# Altium footprint library 2705462719CA-C03.PcbLib: 1 footprints
Each footprint in its own frame and in the unit in brackets; x right, y up, seen from the top. Pads: shape width x height; smd on the part's side, far side on the other; paste and mask are expansions set on the pad; w line width, h text height; cw(c..) or ccw(c..) is an arc to the next point about the centre after c.
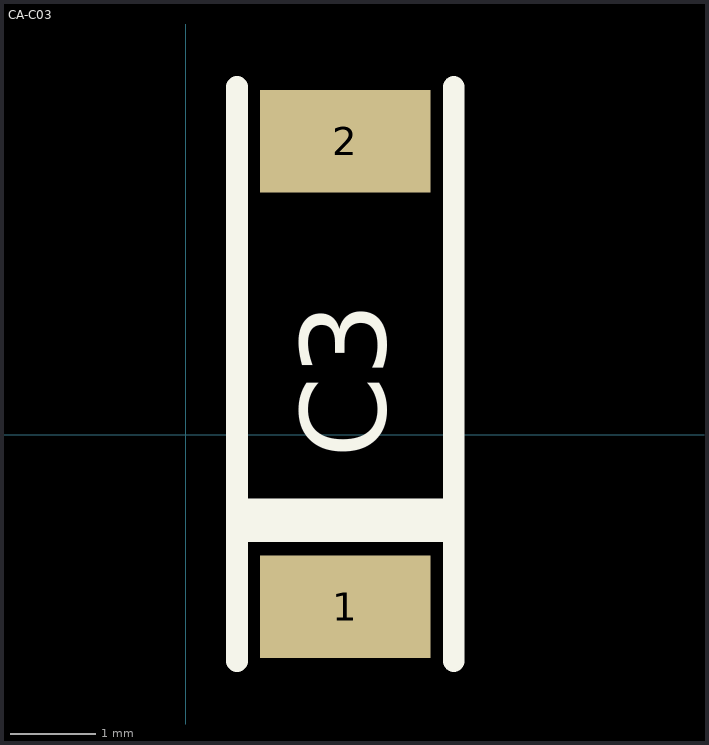
[diagram p0: the footprint, top view; thin cyan lines are the x and y axes]

## CA-C03 [mm]
pads (2):
  rect 2x1.2 smd: 1(1.87,-2.017) 2(1.87,3.444)
Top Overlay:
  rectangle: 0.6,-1.255 3.013,-0.747
  lines w0.254: 0.6,-2.652 0.6,4.079 ; 3.14,-2.652 3.14,4.079
  text "C3" at 2.342,-0.274 h1